# EAGLE library part USB-C (library we-con)
USB-C Connector Hroparts TYPE-C-31-M-12 or Jing C167321 or XKB U262-161N-4BVC11 Up: XKB U263-241N-4BQC11-1 or Wuerth 632722110112
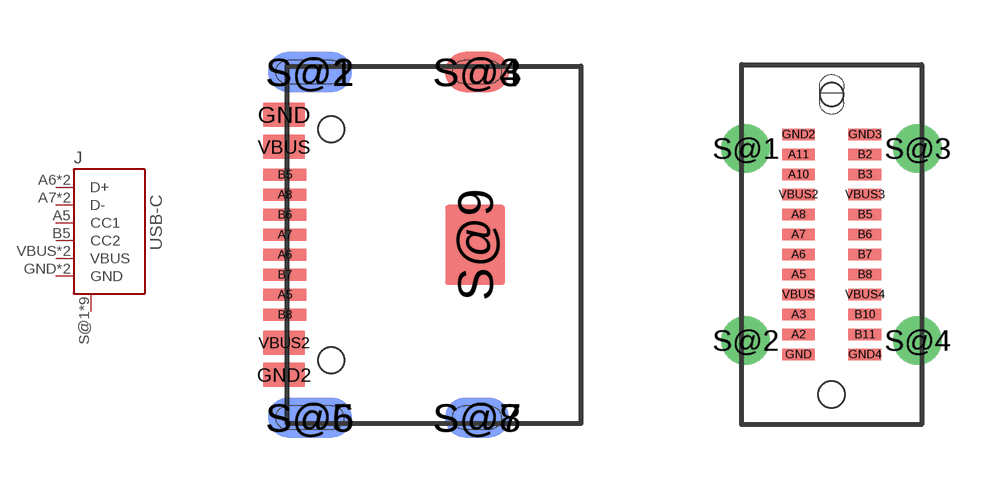
[diagram p44: symbol with the pads of USB-C-S; footprints USB-C-S, USB-C-UP]

Designator prefix J

## USB-C-S  [USB-C-S]
A5  CC1
A6  D+
A7  D-
B5  CC2
B6  D+
B7  D-
GND  GND  pwr
GND2  GND  pwr
S@1  SHIELD  pas
S@2  SHIELD  pas
S@3  SHIELD  pas
S@4  SHIELD  pas
S@5  SHIELD  pas
S@6  SHIELD  pas
S@7  SHIELD  pas
S@8  SHIELD  pas
S@9  SHIELD  pas
VBUS  VBUS  pwr
VBUS2  VBUS  pwr

## USB-C-UP  [USB-C-UP]
A5  CC1
A6  D+
A7  D-
B5  CC2
B6  D+
B7  D-
GND  GND  pwr
GND2  GND  pwr
GND3  GND  pwr
GND4  GND  pwr
S@1  SHIELD  pas
S@2  SHIELD  pas
S@3  SHIELD  pas
S@4  SHIELD  pas
VBUS  VBUS  pwr
VBUS2  VBUS  pwr
VBUS3  VBUS  pwr
VBUS4  VBUS  pwr

## Footprint USB-C-S (pad centres in mm)
USB C Surface Mounted Hroparts TYPE-C-31-M-12 or Jing C167321 or XKB U262-161N-4BVC11
smd 1.1 x 0.3: A5 -1.155,-1.25; A6 -1.155,-0.25; A7 -1.155,0.25; A8 -1.155,1.25; B5 -1.155,1.75; B6 -1.155,0.75; B7 -1.155,-0.75; B8 -1.155,-1.75
smd 1.05 x 0.6: GND -1.175,3.25; GND2 -1.175,-3.25; VBUS -1.175,2.45; VBUS2 -1.175,-2.45
smd 2.1 x 1: S@1 -0.53,4.32; S@5 -0.53,-4.32
smd 2.1 x 1 bottom: S@2 -0.53,4.32; S@6 -0.53,-4.32
smd 1.6 x 1: S@3 3.65,4.32; S@7 3.65,-4.32
smd 1.6 x 1 bottom: S@4 3.65,4.32; S@8 3.65,-4.32
smd 1.5 x 2: S@9 3.6,0
hole 0.65 at 0,-2.89
hole 0.65 at 0,2.89

## Footprint USB-C-UP (pad centres in mm)
USB C Surface Mounted Up XKB U263-241N-4BQC11-1 or Wuerth 632722110112
smd 0.85 x 0.3: A2 -0.83,-2.25; A3 -0.83,-1.75; A5 -0.83,-0.75; A6 -0.83,-0.25; A7 -0.83,0.25; A8 -0.83,0.75; A10 -0.83,1.75; A11 -0.83,2.25; B2 0.83,2.25; B3 0.83,1.75; B5 0.83,0.75; B6 0.83,0.25; B7 0.83,-0.25; B8 0.83,-0.75; B10 0.83,-1.75; B11 0.83,-2.25; GND -0.83,-2.75; GND2 -0.83,2.75; GND3 0.83,2.75; GND4 0.83,-2.75; VBUS -0.83,-1.25; VBUS2 -0.83,1.25; VBUS3 0.83,1.25; VBUS4 0.83,-1.25
drill 0.7 pad 1.2: S@1 -2.15,2.4; S@2 -2.15,-2.4; S@3 2.15,2.4; S@4 2.15,-2.4
hole 0.66 at 0,-3.75
hole 0.58 at 0,3.75